# Altium footprint library 02.MCU_KL25.PcbLib: 14 footprints
Each footprint in its own frame and in the unit in brackets; x right, y up, seen from the top. Pads: shape width x height; smd on the part's side, far side on the other; paste and mask are expansions set on the pad; w line width, h text height; cw(c..) or ccw(c..) is an arc to the next point about the centre after c.
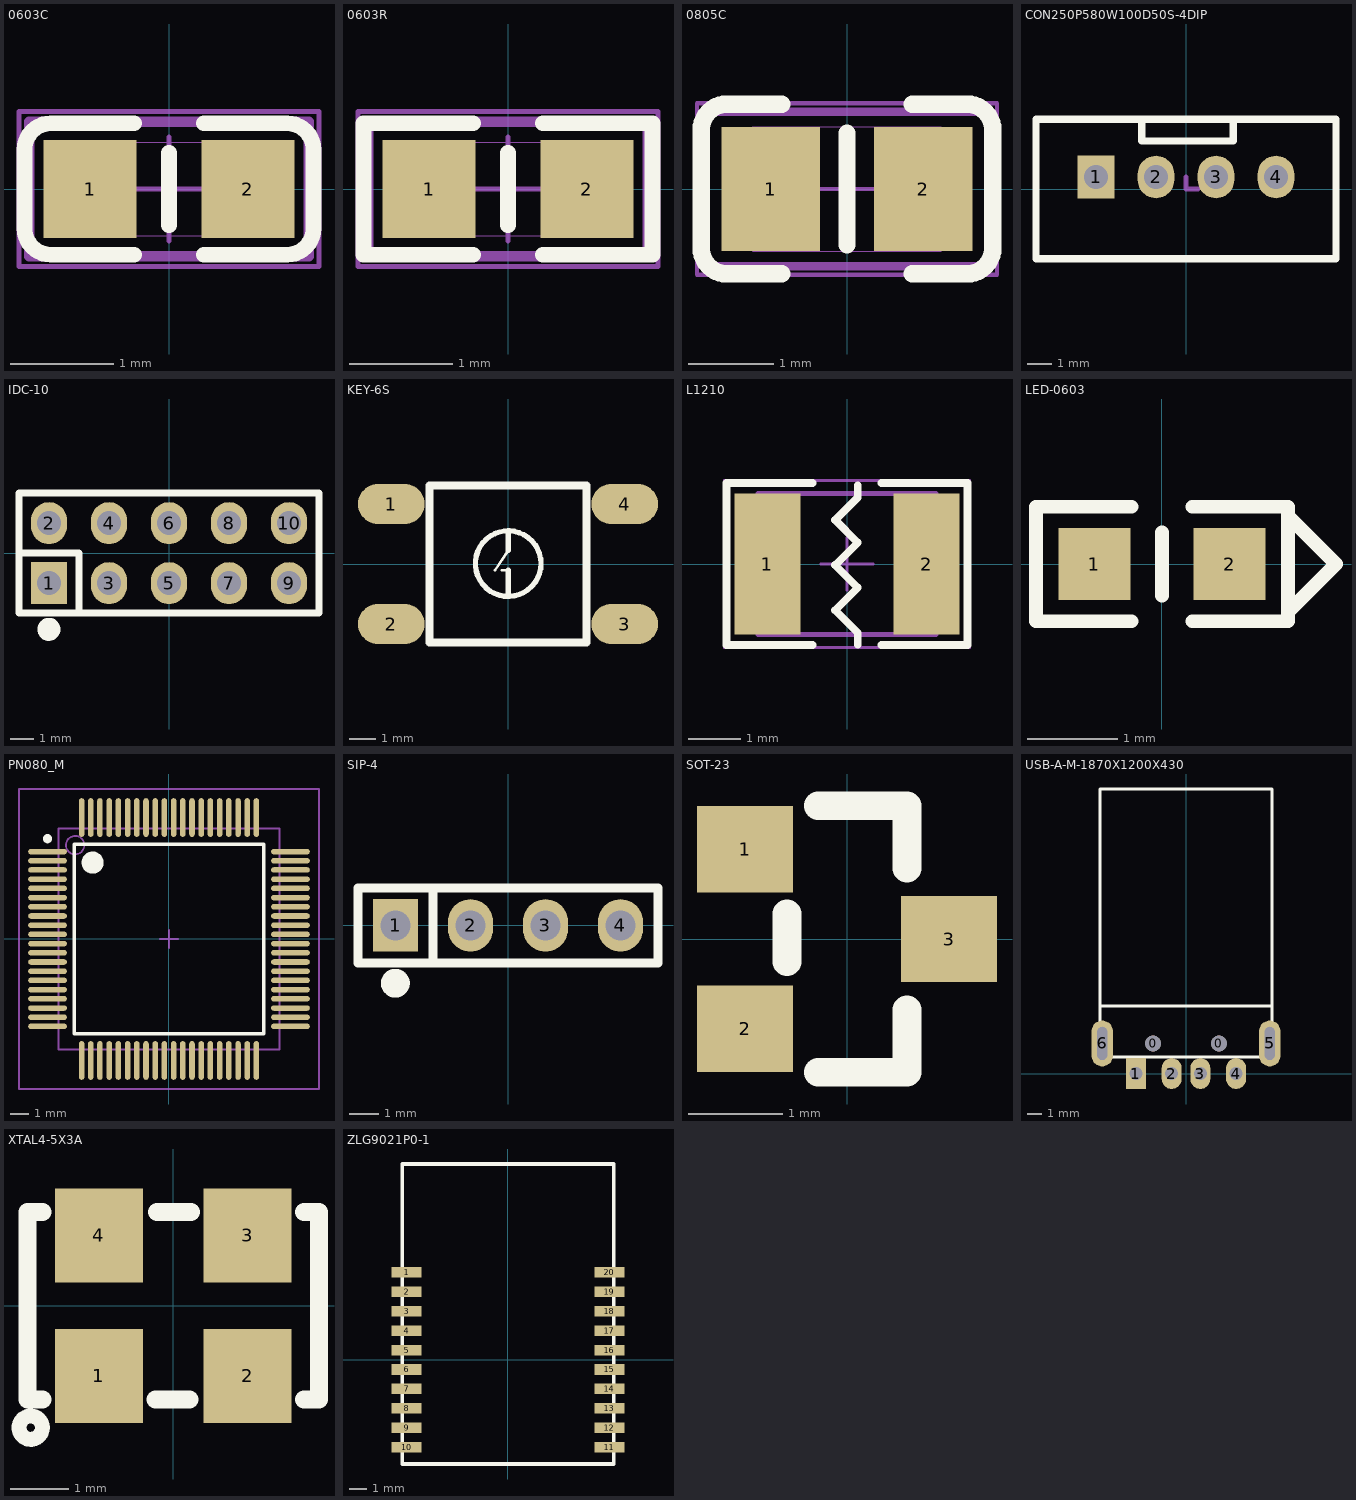
[diagram p0: the footprints below, top view; thin cyan lines are the x and y axes]

## 0603C [mm]
height 1.524
pads (2):
  rect 0.9x0.95 smd: 1(-0.762,0) 2(0.762,0)
Top Overlay:
  lines w0.152: -0.337,-0.635 -1.143,-0.635 cw(c-1.143,-0.381) -1.397,-0.381 -1.397,0.381 cw(c-1.143,0.381) -1.143,0.635 -0.337,0.635 ; 0,-0.35 0,0.35 ; 0.337,-0.635 1.143,-0.635 ccw(c1.143,-0.381) 1.397,-0.381 1.397,0.381 ccw(c1.143,0.381) 1.143,0.635 0.337,0.635
Mechanical 15:
  lines w0.1: -1.35,-0.65 -1.35,0.65 1.35,0.65 1.35,-0.65 -1.35,-0.65
Mechanical 16:
  lines w0.001: -0.85,-0.45 -0.85,0.45 0.85,0.45 0.85,-0.45 -0.85,-0.45
  lines w0.05: -0.5,0 0.5,0 ; 0,-0.5 0,0.5 ; -1.45,-0.75 -1.45,0.75 1.45,0.75 1.45,-0.75 -1.45,-0.75
3D body: height 0.3, standoff 0, extent -0.789,-0.381 0.811,0.419

## 0603R [mm]
height 1.524
pads (2):
  rect 0.9x0.95 smd: 1(-0.762,0) 2(0.762,0)
Top Overlay:
  lines w0.152: -0.337,-0.635 -1.397,-0.635 -1.397,0.635 -0.337,0.635 ; 0,-0.35 0,0.35 ; 0.337,-0.635 1.397,-0.635 1.397,0.635 0.337,0.635
Mechanical 15:
  lines w0.1: -1.35,-0.65 1.35,-0.65 1.35,0.65 -1.35,0.65 -1.35,-0.65
Mechanical 16:
  lines w0.001: -0.85,-0.45 0.85,-0.45 0.85,0.45 -0.85,0.45 -0.85,-0.45
  lines w0.05: -0.5,0 0.5,0 ; 0,-0.5 0,0.5 ; -1.45,-0.75 1.45,-0.75 1.45,0.75 -1.45,0.75 -1.45,-0.75
3D body: height 0.3, standoff 0, extent -0.8,-0.4 0.8,0.4

## 0805C [mm]
height 1.524
pads (2):
  rect 1.15x1.45 smd: 1(-0.889,0) 2(0.889,0)
Top Overlay:
  lines w0.2: 0,-0.65 0,0.65
  lines w0.203: -0.762,-0.991 -1.397,-0.991 cw(c-1.397,-0.686) -1.702,-0.686 -1.702,0.686 cw(c-1.397,0.686) -1.397,0.991 -0.762,0.991 ; 0.762,-0.991 1.397,-0.991 ccw(c1.397,-0.686) 1.702,-0.686 1.702,0.686 ccw(c1.397,0.686) 1.397,0.991 0.762,0.991
Mechanical 15:
  lines w0.1: -1.65,-0.9 -1.65,0.9 1.65,0.9 1.65,-0.9 -1.65,-0.9
Mechanical 16:
  lines w0.001: -1.1,-0.725 -1.1,0.725 1.1,0.725 1.1,-0.725 -1.1,-0.725
  lines w0.05: -0.5,0 0.5,0 ; 0,-0.5 0,0.5 ; -1.75,-1 -1.75,1 1.75,1 1.75,-1 -1.75,-1
3D body: height 0.78, standoff 0, extent -1,-0.625 1,0.625

## CON250P580W100D50S-4DIP [mil]
height 60
pads (4):
  rect 60x70 hole 40: 1(-147.64,19.69)
  oval 60x70 hole 40: 2(-49.21,19.69) 3(49.21,19.69) 4(147.64,19.69)
Top Overlay:
  lines w12: -72.64,113.69 -72.64,78.69 77.36,78.69 77.36,113.69 ; -246.06,-114.17 246.06,-114.17 246.06,114.17 -246.06,114.17 -246.06,-114.17
Mechanical 15:
  lines w8: 0,20 0,0 20,0
3D body: height 275.59, standoff -118.11, extent -244.09,-119.09 248.82,117.13

## IDC-10 [mil]
height 60
pads (10):
  rect 60x70 hole 40: 1(-200,-50)
  oval 60x70 hole 40: 2(-200,50) 3(-100,-50) 4(-100,50) 5(0,-50) 6(0,50) 7(100,-50) 8(100,50) 9(200,-50) 10(200,50)
Top Overlay:
  circle w20: c-200.22,-127 r9.22
  lines w12: -250,0 -150,0 -150,-100 ; -250,-100 -250,100 250,100 250,-100 -250,-100
3D body: height 298.43, standoff -115.75, extent -250,0 -150,100
3D body: height 298.43, standoff -115.75, extent -150,0 -50,100
3D body: height 298.43, standoff -115.75, extent -250,-100 -150,0
3D body: height 298.43, standoff -115.75, extent -150,-100 -50,0
3D body: height 298.43, standoff -115.75, extent -50,-100 50,0
3D body: height 298.43, standoff -115.75, extent -50,0 50,100
3D body: height 298.43, standoff -115.75, extent 50,0 150,100
3D body: height 298.43, standoff -115.75, extent 50,-100 150,0
3D body: height 298.43, standoff -115.75, extent 150,0 250,100
3D body: height 298.43, standoff -115.75, extent 150,-100 250,0

## KEY-6S [mil]
height 120
pads (4):
  oval 100x60 smd: 1(-175,90) 2(-175,-90) 3(175,-90) 4(175,90)
Top Overlay:
  circle w8: c0.27,0.61 r49.21
  lines w4: -19.42,-9.24 0.27,20.29 ; -9.57,-9.24 0.27,-9.24
  lines w8: 0.27,-48.61 0.27,-9.23 ; 0.27,20.29 0.27,49.82
  lines w12: -118.11,-118.11 118.11,-118.11 118.11,118.11 -118.11,118.11 -118.11,-118.11
3D body: height 267.87, standoff 2.13, extent -200.64,-122.05 200.65,122.05

## L1210 [mm]
height 1.905
pads (2):
  rect 1.27x2.7 smd: 1(-1.524,0) 2(1.524,0)
Top Overlay:
  lines w0.152: -0.66,-1.549 -2.311,-1.549 -2.311,1.549 -0.66,1.549 ; 0.206,-1.547 0.206,-1.318 -0.226,-0.886 0.206,-0.454 -0.226,-0.023 0.206,0.409 -0.226,0.841 0.206,1.273 0.206,1.501 ; 0.66,-1.549 2.311,-1.549 2.311,1.549 0.66,1.549
Mechanical 15:
  lines w0.1: -1.7,-1.35 1.7,-1.35 1.7,1.35 -1.7,1.35 -1.7,-1.35
Mechanical 16:
  lines w0.001: -1.7,-1.35 1.7,-1.35 1.7,1.35 -1.7,1.35 -1.7,-1.35
  lines w0.05: -0.5,0 0.5,0 ; 0,-0.5 0,0.5 ; -2.35,-1.6 2.35,-1.6 2.35,1.6 -2.35,1.6 -2.35,-1.6
3D body: height 2.54, standoff 0, extent -1.524,-1.27 1.524,1.27

## LED-0603 [mm] "20100324  贴片0603LED   LSB"
height 0.889
pads (2):
  rect 0.8x0.8 smd: 1(-0.75,0) 2(0.75,0)
Top Overlay:
  lines w0.152: -0.337,-0.635 -1.397,-0.635 -1.397,0.635 -0.337,0.635 ; 0,-0.35 0,0.35 ; 0.337,-0.635 1.397,-0.635 1.397,0.635 0.337,0.635 ; 1.397,-0.533 1.93,0 1.397,0.533
3D body: height 0.4, standoff 0, extent -0.5,-0.403 0.5,0.403
3D body: height 0.3, standoff 0, extent -0.8,-0.4 0.8,0.4

## PN080_M [mm] "Thin QFP, 80-Leads, Body 12x12mm, Pitch 0.5mm, IPC Low Density"
height 1.6
pads (80):
  oval 2.1x0.3 smd: 1(-6.6,4.75) 2(-6.6,4.25) 3(-6.6,3.75) 4(-6.6,3.25) 5(-6.6,2.75) 6(-6.6,2.25) 7(-6.6,1.75) 8(-6.6,1.25) 9(-6.6,0.75) 10(-6.6,0.25) 11(-6.6,-0.25) 12(-6.6,-0.75) 13(-6.6,-1.25) 14(-6.6,-1.75) 15(-6.6,-2.25) 16(-6.6,-2.75) 17(-6.6,-3.25) 18(-6.6,-3.75) 19(-6.6,-4.25) 20(-6.6,-4.75) 41(6.6,-4.75) 42(6.6,-4.25) 43(6.6,-3.75) 44(6.6,-3.25) 45(6.6,-2.75) 46(6.6,-2.25) 47(6.6,-1.75) 48(6.6,-1.25) 49(6.6,-0.75) 50(6.6,-0.25) 51(6.6,0.25) 52(6.6,0.75) 53(6.6,1.25) 54(6.6,1.75) 55(6.6,2.25) 56(6.6,2.75) 57(6.6,3.25) 58(6.6,3.75) 59(6.6,4.25) 60(6.6,4.75)
  oval 0.3x2.1 smd: 21(-4.75,-6.6) 22(-4.25,-6.6) 23(-3.75,-6.6) 24(-3.25,-6.6) 25(-2.75,-6.6) 26(-2.25,-6.6) 27(-1.75,-6.6) 28(-1.25,-6.6) 29(-0.75,-6.6) 30(-0.25,-6.6) 31(0.25,-6.6) 32(0.75,-6.6) 33(1.25,-6.6) 34(1.75,-6.6) 35(2.25,-6.6) 36(2.75,-6.6) 37(3.25,-6.6) 38(3.75,-6.6) 39(4.25,-6.6) 40(4.75,-6.6) 61(4.75,6.6) 62(4.25,6.6) 63(3.75,6.6) 64(3.25,6.6) 65(2.75,6.6) 66(2.25,6.6) 67(1.75,6.6) 68(1.25,6.6) 69(0.75,6.6) 70(0.25,6.6) 71(-0.25,6.6) 72(-0.75,6.6) 73(-1.25,6.6) 74(-1.75,6.6) 75(-2.25,6.6) 76(-2.75,6.6) 77(-3.25,6.6) 78(-3.75,6.6) 79(-4.25,6.6) 80(-4.75,6.6)
Top Overlay:
  circle w0.25: c-6.6,5.45 r0.125
  circle w0.6: c-4.15,4.15 r0.3
  lines w0.2: -5.15,-5.15 -5.15,5.15 5.15,5.15 5.15,-5.15 -5.15,-5.15
Mechanical 13:
  circle w0.1: c-5.1,5.1 r0.5
  lines w0.1: -6,-6 -6,6 6,6 6,-6 -6,-6
Mechanical 15:
  lines w0.1: -0.5,0 0.5,0 ; 0,-0.5 0,0.5 ; -8.15,-8.15 -8.15,8.15 8.15,8.15 8.15,-8.15 -8.15,-8.15
3D body: height 1.6, standoff 0, extent -6,-6 6,6

## SIP-4 [mil]
height 60
pads (4):
  rect 60x70 hole 40: 1(-150,0)
  oval 60x70 hole 40: 2(-50,0) 3(50,0) 4(150,0)
Top Overlay:
  circle w20: c-150.22,-77 r9.22
  lines w12: -100,-50 -100,50 ; -200,-50 200,-50 200,50 -200,50 -200,-50
3D body: height 298.43, standoff -115.75, extent 100,-50 200,50
3D body: height 298.43, standoff -115.75, extent 0,-50 100,50
3D body: height 298.43, standoff -115.75, extent -200,-50 -100,50
3D body: height 298.43, standoff -115.75, extent -100,-50 0,50

## SOT-23 [mil]
height 60
pads (3):
  rect 40x36 smd: 1(-42.5,37.4) 2(-42.5,-37.4) 3(42.5,0)
Top Overlay:
  lines w12: -25,-9.5 -25,10.5 ; -12,-55.5 25,-55.5 25,-29.5 ; -12,55.5 25,55.5 25,29.5

## USB-A-M-1870X1200X430 [mm]
height 4.3
pads (8):
  round 1.1 hole 1.1 unplated: 0(-2.3,2.1) 0(2.3,2.1)
  rect 1.397x2.159 hole 0.9: 1(-3.5,0)
  oval 1.397x2.159 hole 0.9: 2(-1,0) 3(1,0) 4(3.5,0)
  oval 1.5x3.2 hole 0.7 slot 2.3 at 90 deg: 5(5.85,2.1) 6(-5.85,2.1)
Top Overlay:
  lines w0.203: -6.015,1.168 -6.015,19.868 6,19.868 6,1.168 0,1.168 -6,1.168 ; -6.015,4.724 6,4.724
Mechanical 1:
  lines w0.127: -6.2,0.95 -6.2,3.25 -5.5,3.25 -5.5,0.95 -6.2,0.95 ; 5.5,0.95 5.5,3.25 6.2,3.25 6.2,0.95 5.5,0.95

## XTAL4-5X3A [mm] "XTAL-XO53"
height 1.524
pads (4):
  rect 1.5x1.6 smd: 1(-1.27,-1.2) 2(1.27,-1.2) 3(1.27,1.2) 4(-1.27,1.2)
Top Overlay:
  circle w0.254: c-2.435,-2.083 r0.2
  lines w0.305: -2.235,-1.6 -2.489,-1.6 -2.489,1.6 -2.235,1.6 ; -0.305,-1.6 0.279,-1.6 ; -0.279,1.6 0.305,1.6 ; 2.235,-1.6 2.489,-1.6 2.489,1.6 2.235,1.6
3D body: height 1, standoff 0, extent -2.489,-1.6 2.489,1.6

## ZLG9021P0-1 [mm]
height 1.524
pads (20):
  rect 1.7x0.6 smd: 1(-5.75,4.95) 2(-5.75,3.85) 3(-5.75,2.75) 4(-5.75,1.65) 5(-5.75,0.55) 6(-5.75,-0.55) 7(-5.75,-1.65) 8(-5.75,-2.75) 9(-5.75,-3.85) 10(-5.75,-4.95) 11(5.75,-4.95) 12(5.75,-3.85) 13(5.75,-2.75) 14(5.75,-1.65) 15(5.75,-0.55) 16(5.75,0.55) 17(5.75,1.65) 18(5.75,2.75) 19(5.75,3.85) 20(5.75,4.95)
Top Overlay:
  lines w0.203: -6,-5.906 6,-5.906 6,11.094 -6,11.094 -6,-5.906